# Altium schematic symbol library Capacitors-SMT$.SchLib: 72 symbols
Pins are listed as number, name and electrical type; pins without a type are passive.

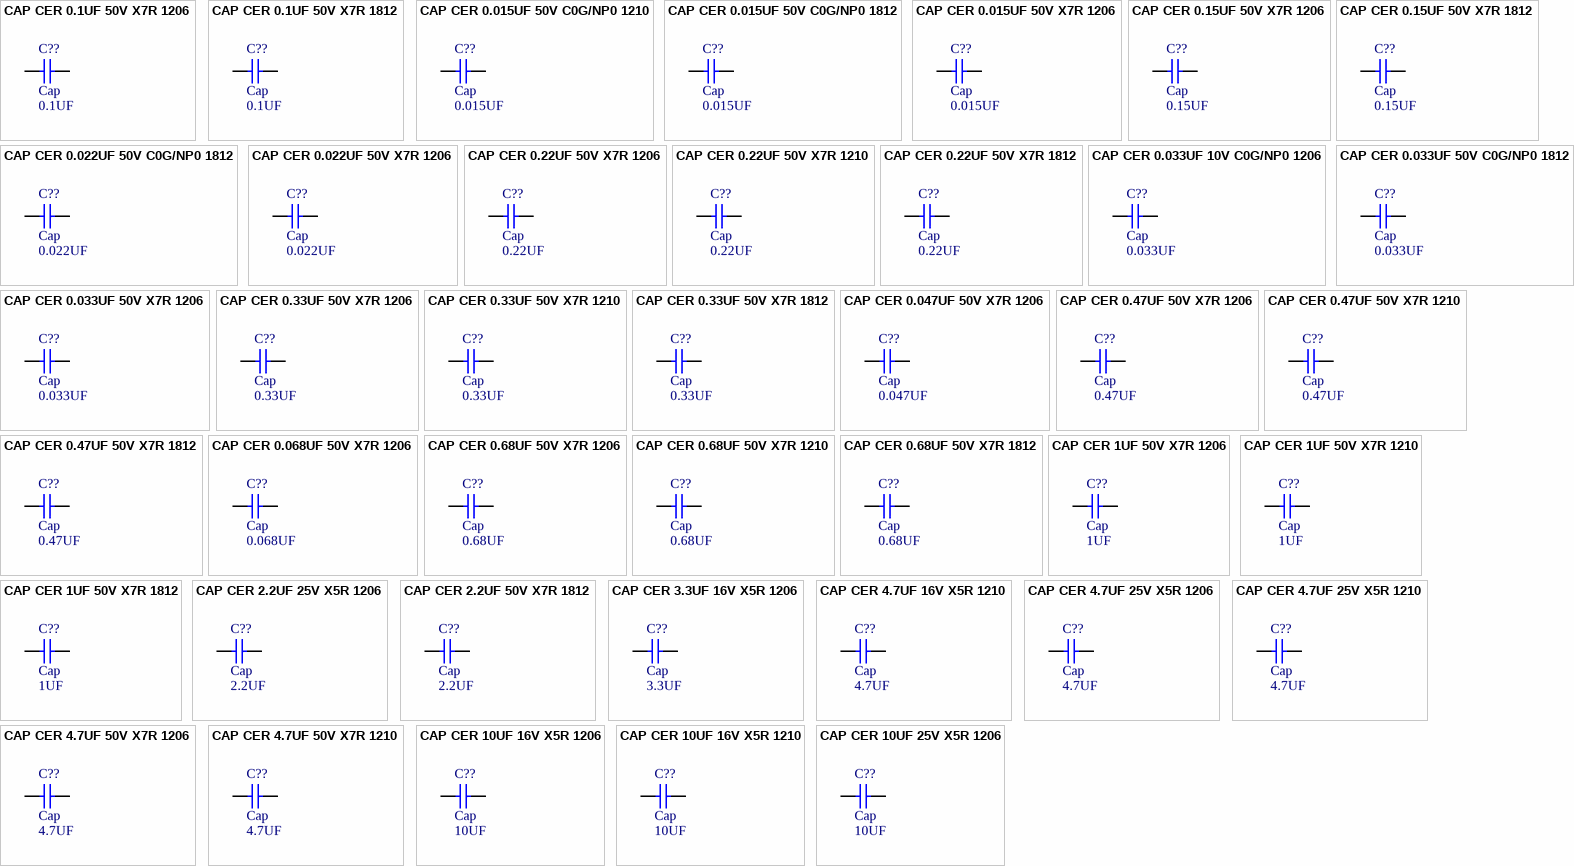
[diagram p0: symbols CAP CER 0.1UF 50V X7R 1206 to CAP CER 10UF 25V X5R 1206]

## CAP CER 0.1UF 50V X7R 1206
designator C??, comment Cap  value 0.1UF
Capacitor; Manufacturer Part Number: 885012208087; Designator: C?; Voltage Rating: 50V; Published: 8-Jun-2000; LatestRevisionDate: 17-Jul-2002; LatestRevisionNote: Re-released for DXP Platform.; Publisher: Altium Limited
simulation model CAP (Capacitor)
signal-integrity model Cap
footprint 1206
pins: 1, 2

## CAP CER 0.1UF 50V X7R 1812
designator C??, comment Cap  value 0.1UF
Capacitor; Manufacturer Part Number: 885012210025; Designator: C?; Voltage Rating: 50V; Published: 8-Jun-2000; LatestRevisionDate: 17-Jul-2002; LatestRevisionNote: Re-released for DXP Platform.; Publisher: Altium Limited
simulation model CAP (Capacitor)
signal-integrity model Cap
footprint 1812
pins: 1, 2

## CAP CER 0.015UF 50V C0G/NP0 1210
designator C??, comment Cap  value 0.015UF
Capacitor; Manufacturer Part Number: 885012009024; Designator: C?; Voltage Rating: 50V; Published: 8-Jun-2000; LatestRevisionDate: 17-Jul-2002; LatestRevisionNote: Re-released for DXP Platform.; Publisher: Altium Limited
simulation model CAP (Capacitor)
signal-integrity model Cap
footprint 1210
pins: 1, 2

## CAP CER 0.015UF 50V C0G/NP0 1812
designator C??, comment Cap  value 0.015UF
Capacitor; Manufacturer Part Number: 885012010014; Designator: C?; Voltage Rating: 50V; Published: 8-Jun-2000; LatestRevisionDate: 17-Jul-2002; LatestRevisionNote: Re-released for DXP Platform.; Publisher: Altium Limited
simulation model CAP (Capacitor)
signal-integrity model Cap
footprint 1812
pins: 1, 2

## CAP CER 0.015UF 50V X7R 1206
designator C??, comment Cap  value 0.015UF
Capacitor; Manufacturer Part Number: 885012208082; Designator: C?; Voltage Rating: 50V; Published: 8-Jun-2000; LatestRevisionDate: 17-Jul-2002; LatestRevisionNote: Re-released for DXP Platform.; Publisher: Altium Limited
simulation model CAP (Capacitor)
signal-integrity model Cap
footprint 1206
pins: 1, 2

## CAP CER 0.15UF 50V X7R 1206
designator C??, comment Cap  value 0.15UF
Capacitor; Manufacturer Part Number: 885012208088; Designator: C?; Voltage Rating: 50V; Published: 8-Jun-2000; LatestRevisionDate: 17-Jul-2002; LatestRevisionNote: Re-released for DXP Platform.; Publisher: Altium Limited
simulation model CAP (Capacitor)
signal-integrity model Cap
footprint 1206
pins: 1, 2

## CAP CER 0.15UF 50V X7R 1812
designator C??, comment Cap  value 0.15UF
Capacitor; Manufacturer Part Number: 885012210026; Designator: C?; Voltage Rating: 50V; Published: 8-Jun-2000; LatestRevisionDate: 17-Jul-2002; LatestRevisionNote: Re-released for DXP Platform.; Publisher: Altium Limited
simulation model CAP (Capacitor)
signal-integrity model Cap
footprint 1812
pins: 1, 2

## CAP CER 0.022UF 50V C0G/NP0 1812
designator C??, comment Cap  value 0.022UF
Capacitor; Manufacturer Part Number: 885012010015; Designator: C?; Voltage Rating: 50V; Published: 8-Jun-2000; LatestRevisionDate: 17-Jul-2002; LatestRevisionNote: Re-released for DXP Platform.; Publisher: Altium Limited
simulation model CAP (Capacitor)
signal-integrity model Cap
footprint 1812
pins: 1, 2

## CAP CER 0.022UF 50V X7R 1206
designator C??, comment Cap  value 0.022UF
Capacitor; Manufacturer Part Number: 885012208083; Designator: C?; Voltage Rating: 50V; Published: 8-Jun-2000; LatestRevisionDate: 17-Jul-2002; LatestRevisionNote: Re-released for DXP Platform.; Publisher: Altium Limited
simulation model CAP (Capacitor)
signal-integrity model Cap
footprint 1206
pins: 1, 2

## CAP CER 0.22UF 50V X7R 1206
designator C??, comment Cap  value 0.22UF
Capacitor; Manufacturer Part Number: 885012208089; Designator: C?; Voltage Rating: 50V; Published: 8-Jun-2000; LatestRevisionDate: 17-Jul-2002; LatestRevisionNote: Re-released for DXP Platform.; Publisher: Altium Limited
simulation model CAP (Capacitor)
signal-integrity model Cap
footprint 1206
pins: 1, 2

## CAP CER 0.22UF 50V X7R 1210
designator C??, comment Cap  value 0.22UF
Capacitor; Manufacturer Part Number: 885012209043; Designator: C?; Voltage Rating: 50V; Published: 8-Jun-2000; LatestRevisionDate: 17-Jul-2002; LatestRevisionNote: Re-released for DXP Platform.; Publisher: Altium Limited
simulation model CAP (Capacitor)
signal-integrity model Cap
footprint 1210
pins: 1, 2

## CAP CER 0.22UF 50V X7R 1812
designator C??, comment Cap  value 0.22UF
Capacitor; Manufacturer Part Number: 885012210027; Designator: C?; Voltage Rating: 50V; Published: 8-Jun-2000; LatestRevisionDate: 17-Jul-2002; LatestRevisionNote: Re-released for DXP Platform.; Publisher: Altium Limited
simulation model CAP (Capacitor)
signal-integrity model Cap
footprint 1812
pins: 1, 2

## CAP CER 0.033UF 10V C0G/NP0 1206
designator C??, comment Cap  value 0.033UF
Capacitor; Manufacturer Part Number: 885012008010; Designator: C?; Voltage Rating: 10V; Published: 8-Jun-2000; LatestRevisionDate: 17-Jul-2002; LatestRevisionNote: Re-released for DXP Platform.; Publisher: Altium Limited
simulation model CAP (Capacitor)
signal-integrity model Cap
footprint 1206
pins: 1, 2

## CAP CER 0.033UF 50V C0G/NP0 1812
designator C??, comment Cap  value 0.033UF
Capacitor; Manufacturer Part Number: 885012010016; Designator: C?; Voltage Rating: 50V; Published: 8-Jun-2000; LatestRevisionDate: 17-Jul-2002; LatestRevisionNote: Re-released for DXP Platform.; Publisher: Altium Limited
simulation model CAP (Capacitor)
signal-integrity model Cap
footprint 1812
pins: 1, 2

## CAP CER 0.033UF 50V X7R 1206
designator C??, comment Cap  value 0.033UF
Capacitor; Manufacturer Part Number: 885012208084; Designator: C?; Voltage Rating: 50V; Published: 8-Jun-2000; LatestRevisionDate: 17-Jul-2002; LatestRevisionNote: Re-released for DXP Platform.; Publisher: Altium Limited
simulation model CAP (Capacitor)
signal-integrity model Cap
footprint 1206
pins: 1, 2

## CAP CER 0.33UF 50V X7R 1206
designator C??, comment Cap  value 0.33UF
Capacitor; Manufacturer Part Number: 885012208090; Designator: C?; Voltage Rating: 50V; Published: 8-Jun-2000; LatestRevisionDate: 17-Jul-2002; LatestRevisionNote: Re-released for DXP Platform.; Publisher: Altium Limited
simulation model CAP (Capacitor)
signal-integrity model Cap
footprint 1206
pins: 1, 2

## CAP CER 0.33UF 50V X7R 1210
designator C??, comment Cap  value 0.33UF
Capacitor; Manufacturer Part Number: 885012209044; Designator: C?; Voltage Rating: 50V; Published: 8-Jun-2000; LatestRevisionDate: 17-Jul-2002; LatestRevisionNote: Re-released for DXP Platform.; Publisher: Altium Limited
simulation model CAP (Capacitor)
signal-integrity model Cap
footprint 1210
pins: 1, 2

## CAP CER 0.33UF 50V X7R 1812
designator C??, comment Cap  value 0.33UF
Capacitor; Manufacturer Part Number: 885012210028; Designator: C?; Voltage Rating: 50V; Published: 8-Jun-2000; LatestRevisionDate: 17-Jul-2002; LatestRevisionNote: Re-released for DXP Platform.; Publisher: Altium Limited
simulation model CAP (Capacitor)
signal-integrity model Cap
footprint 1812
pins: 1, 2

## CAP CER 0.047UF 50V X7R 1206
designator C??, comment Cap  value 0.047UF
Capacitor; Manufacturer Part Number: 885012208085; Designator: C?; Voltage Rating: 50V; Published: 8-Jun-2000; LatestRevisionDate: 17-Jul-2002; LatestRevisionNote: Re-released for DXP Platform.; Publisher: Altium Limited
simulation model CAP (Capacitor)
signal-integrity model Cap
footprint 1206
pins: 1, 2

## CAP CER 0.47UF 50V X7R 1206
designator C??, comment Cap  value 0.47UF
Capacitor; Manufacturer Part Number: 885012208091; Designator: C?; Voltage Rating: 50V; Published: 8-Jun-2000; LatestRevisionDate: 17-Jul-2002; LatestRevisionNote: Re-released for DXP Platform.; Publisher: Altium Limited
simulation model CAP (Capacitor)
signal-integrity model Cap
footprint 1206
pins: 1, 2

## CAP CER 0.47UF 50V X7R 1210
designator C??, comment Cap  value 0.47UF
Capacitor; Manufacturer Part Number: 885012209045; Designator: C?; Voltage Rating: 50V; Published: 8-Jun-2000; LatestRevisionDate: 17-Jul-2002; LatestRevisionNote: Re-released for DXP Platform.; Publisher: Altium Limited
simulation model CAP (Capacitor)
signal-integrity model Cap
footprint 1210
pins: 1, 2

## CAP CER 0.47UF 50V X7R 1812
designator C??, comment Cap  value 0.47UF
Capacitor; Manufacturer Part Number: 885012210029; Designator: C?; Voltage Rating: 50V; Published: 8-Jun-2000; LatestRevisionDate: 17-Jul-2002; LatestRevisionNote: Re-released for DXP Platform.; Publisher: Altium Limited
simulation model CAP (Capacitor)
signal-integrity model Cap
footprint 1812
pins: 1, 2

## CAP CER 0.068UF 50V X7R 1206
designator C??, comment Cap  value 0.068UF
Capacitor; Manufacturer Part Number: 885012208086; Designator: C?; Voltage Rating: 50V; Published: 8-Jun-2000; LatestRevisionDate: 17-Jul-2002; LatestRevisionNote: Re-released for DXP Platform.; Publisher: Altium Limited
simulation model CAP (Capacitor)
signal-integrity model Cap
footprint 1206
pins: 1, 2

## CAP CER 0.68UF 50V X7R 1206
designator C??, comment Cap  value 0.68UF
Capacitor; Manufacturer Part Number: 885012208092; Designator: C?; Voltage Rating: 50V; Published: 8-Jun-2000; LatestRevisionDate: 17-Jul-2002; LatestRevisionNote: Re-released for DXP Platform.; Publisher: Altium Limited
simulation model CAP (Capacitor)
signal-integrity model Cap
footprint 1206
pins: 1, 2

## CAP CER 0.68UF 50V X7R 1210
designator C??, comment Cap  value 0.68UF
Capacitor; Manufacturer Part Number: 885012209046; Designator: C?; Voltage Rating: 50V; Published: 8-Jun-2000; LatestRevisionDate: 17-Jul-2002; LatestRevisionNote: Re-released for DXP Platform.; Publisher: Altium Limited
simulation model CAP (Capacitor)
signal-integrity model Cap
footprint 1210
pins: 1, 2

## CAP CER 0.68UF 50V X7R 1812
designator C??, comment Cap  value 0.68UF
Capacitor; Manufacturer Part Number: 885012210030; Designator: C?; Voltage Rating: 50V; Published: 8-Jun-2000; LatestRevisionDate: 17-Jul-2002; LatestRevisionNote: Re-released for DXP Platform.; Publisher: Altium Limited
simulation model CAP (Capacitor)
signal-integrity model Cap
footprint 1812
pins: 1, 2

## CAP CER 1UF 50V X7R 1206
designator C??, comment Cap  value 1UF
Capacitor; Manufacturer Part Number: 885012208093; Designator: C?; Voltage Rating: 50V; Published: 8-Jun-2000; LatestRevisionDate: 17-Jul-2002; LatestRevisionNote: Re-released for DXP Platform.; Publisher: Altium Limited
simulation model CAP (Capacitor)
signal-integrity model Cap
footprint 1206
pins: 1, 2

## CAP CER 1UF 50V X7R 1210
designator C??, comment Cap  value 1UF
Capacitor; Manufacturer Part Number: 885012209047; Designator: C?; Voltage Rating: 50V; Published: 8-Jun-2000; LatestRevisionDate: 17-Jul-2002; LatestRevisionNote: Re-released for DXP Platform.; Publisher: Altium Limited
simulation model CAP (Capacitor)
signal-integrity model Cap
footprint 1210
pins: 1, 2

## CAP CER 1UF 50V X7R 1812
designator C??, comment Cap  value 1UF
Capacitor; Manufacturer Part Number: 885012210031; Designator: C?; Voltage Rating: 50V; Published: 8-Jun-2000; LatestRevisionDate: 17-Jul-2002; LatestRevisionNote: Re-released for DXP Platform.; Publisher: Altium Limited
simulation model CAP (Capacitor)
signal-integrity model Cap
footprint 1812
pins: 1, 2

## CAP CER 2.2UF 25V X5R 1206
designator C??, comment Cap  value 2.2UF
Capacitor; Manufacturer Part Number: 885012108019; Designator: C?; Voltage Rating: 25V; Published: 8-Jun-2000; LatestRevisionDate: 17-Jul-2002; LatestRevisionNote: Re-released for DXP Platform.; Publisher: Altium Limited
simulation model CAP (Capacitor)
signal-integrity model Cap
footprint 1206
pins: 1, 2

## CAP CER 2.2UF 50V X7R 1812
designator C??, comment Cap  value 2.2UF
Capacitor; Manufacturer Part Number: 885012210032; Designator: C?; Voltage Rating: 50V; Published: 8-Jun-2000; LatestRevisionDate: 17-Jul-2002; LatestRevisionNote: Re-released for DXP Platform.; Publisher: Altium Limited
simulation model CAP (Capacitor)
signal-integrity model Cap
footprint 1812
pins: 1, 2

## CAP CER 3.3UF 16V X5R 1206
designator C??, comment Cap  value 3.3UF
Capacitor; Manufacturer Part Number: 885012108015; Designator: C?; Voltage Rating: 16V; Published: 8-Jun-2000; LatestRevisionDate: 17-Jul-2002; LatestRevisionNote: Re-released for DXP Platform.; Publisher: Altium Limited
simulation model CAP (Capacitor)
signal-integrity model Cap
footprint 1206
pins: 1, 2

## CAP CER 4.7UF 16V X5R 1210
designator C??, comment Cap  value 4.7UF
Capacitor; Manufacturer Part Number: 885012109008; Designator: C?; Voltage Rating: 16V; Published: 8-Jun-2000; LatestRevisionDate: 17-Jul-2002; LatestRevisionNote: Re-released for DXP Platform.; Publisher: Altium Limited
simulation model CAP (Capacitor)
signal-integrity model Cap
footprint 1210
pins: 1, 2

## CAP CER 4.7UF 25V X5R 1206
designator C??, comment Cap  value 4.7UF
Capacitor; Manufacturer Part Number: 885012108020; Designator: C?; Voltage Rating: 25V; Published: 8-Jun-2000; LatestRevisionDate: 17-Jul-2002; LatestRevisionNote: Re-released for DXP Platform.; Publisher: Altium Limited
simulation model CAP (Capacitor)
signal-integrity model Cap
footprint 1206
pins: 1, 2

## CAP CER 4.7UF 25V X5R 1210
designator C??, comment Cap  value 4.7UF
Capacitor; Manufacturer Part Number: 885012109012; Designator: C?; Voltage Rating: 25V; Published: 8-Jun-2000; LatestRevisionDate: 17-Jul-2002; LatestRevisionNote: Re-released for DXP Platform.; Publisher: Altium Limited
simulation model CAP (Capacitor)
signal-integrity model Cap
footprint 1210
pins: 1, 2

## CAP CER 4.7UF 50V X7R 1206
designator C??, comment Cap  value 4.7UF
Capacitor; Manufacturer Part Number: 885012208094; Designator: C?; Voltage Rating: 50V; Published: 8-Jun-2000; LatestRevisionDate: 17-Jul-2002; LatestRevisionNote: Re-released for DXP Platform.; Publisher: Altium Limited
simulation model CAP (Capacitor)
signal-integrity model Cap
footprint 1206
pins: 1, 2

## CAP CER 4.7UF 50V X7R 1210
designator C??, comment Cap  value 4.7UF
Capacitor; Manufacturer Part Number: 885012209048; Designator: C?; Voltage Rating: 50V; Published: 8-Jun-2000; LatestRevisionDate: 17-Jul-2002; LatestRevisionNote: Re-released for DXP Platform.; Publisher: Altium Limited
simulation model CAP (Capacitor)
signal-integrity model Cap
footprint 1210
pins: 1, 2

## CAP CER 10UF 16V X5R 1206
designator C??, comment Cap  value 10UF
Capacitor; Manufacturer Part Number: 885012108017; Designator: C?; Voltage Rating: 16V; Published: 8-Jun-2000; LatestRevisionDate: 17-Jul-2002; LatestRevisionNote: Re-released for DXP Platform.; Publisher: Altium Limited
simulation model CAP (Capacitor)
signal-integrity model Cap
footprint 1206
pins: 1, 2

## CAP CER 10UF 16V X5R 1210
designator C??, comment Cap  value 10UF
Capacitor; Manufacturer Part Number: 885012109009; Designator: C?; Voltage Rating: 16V; Published: 8-Jun-2000; LatestRevisionDate: 17-Jul-2002; LatestRevisionNote: Re-released for DXP Platform.; Publisher: Altium Limited
simulation model CAP (Capacitor)
signal-integrity model Cap
footprint 1210
pins: 1, 2

## CAP CER 10UF 25V X5R 1206
designator C??, comment Cap  value 10UF
Capacitor; Manufacturer Part Number: 885012108021; Designator: C?; Voltage Rating: 25V; Published: 8-Jun-2000; LatestRevisionDate: 17-Jul-2002; LatestRevisionNote: Re-released for DXP Platform.; Publisher: Altium Limited
simulation model CAP (Capacitor)
signal-integrity model Cap
footprint 1206
pins: 1, 2

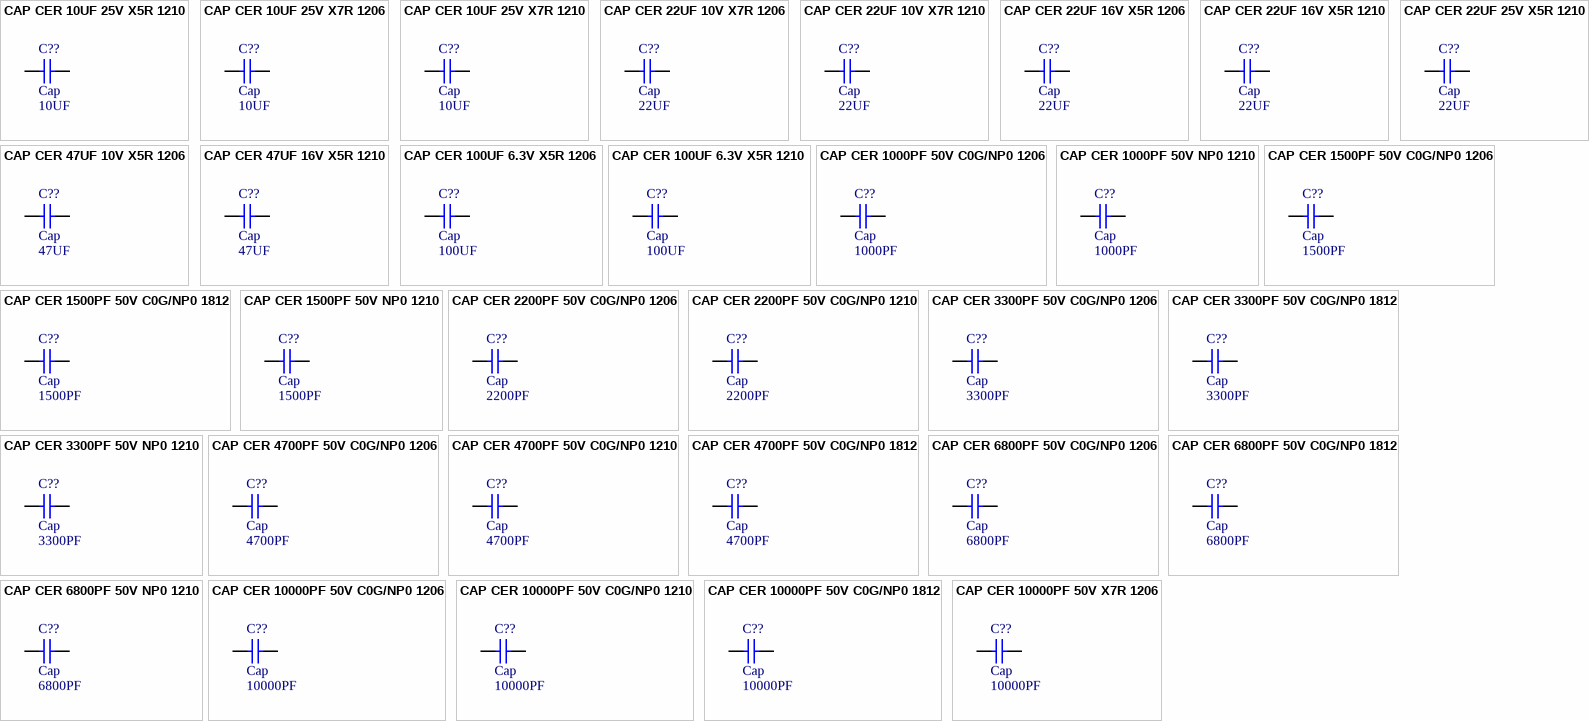
[diagram p1: symbols CAP CER 10UF 25V X5R 1210 to CAP CER 10000PF 50V X7R 1206]

## CAP CER 10UF 25V X5R 1210
designator C??, comment Cap  value 10UF
Capacitor; Manufacturer Part Number: 885012109013; Designator: C?; Voltage Rating: 25V; Published: 8-Jun-2000; LatestRevisionDate: 17-Jul-2002; LatestRevisionNote: Re-released for DXP Platform.; Publisher: Altium Limited
simulation model CAP (Capacitor)
signal-integrity model Cap
footprint 1210
pins: 1, 2

## CAP CER 10UF 25V X7R 1206
designator C??, comment Cap  value 10UF
Capacitor; Manufacturer Part Number: 885012208069; Designator: C?; Voltage Rating: 25V; Published: 8-Jun-2000; LatestRevisionDate: 17-Jul-2002; LatestRevisionNote: Re-released for DXP Platform.; Publisher: Altium Limited
simulation model CAP (Capacitor)
signal-integrity model Cap
footprint 1206
pins: 1, 2

## CAP CER 10UF 25V X7R 1210
designator C??, comment Cap  value 10UF
Capacitor; Manufacturer Part Number: 885012209028; Designator: C?; Voltage Rating: 25V; Published: 8-Jun-2000; LatestRevisionDate: 17-Jul-2002; LatestRevisionNote: Re-released for DXP Platform.; Publisher: Altium Limited
simulation model CAP (Capacitor)
signal-integrity model Cap
footprint 1210
pins: 1, 2

## CAP CER 22UF 10V X7R 1206
designator C??, comment Cap  value 22UF
Capacitor; Manufacturer Part Number: 885012208019; Designator: C?; Voltage Rating: 10V; Published: 8-Jun-2000; LatestRevisionDate: 17-Jul-2002; LatestRevisionNote: Re-released for DXP Platform.; Publisher: Altium Limited
simulation model CAP (Capacitor)
signal-integrity model Cap
footprint 1206
pins: 1, 2

## CAP CER 22UF 10V X7R 1210
designator C??, comment Cap  value 22UF
Capacitor; Manufacturer Part Number: 885012209006; Designator: C?; Voltage Rating: 10V; Published: 8-Jun-2000; LatestRevisionDate: 17-Jul-2002; LatestRevisionNote: Re-released for DXP Platform.; Publisher: Altium Limited
simulation model CAP (Capacitor)
signal-integrity model Cap
footprint 1210
pins: 1, 2

## CAP CER 22UF 16V X5R 1206
designator C??, comment Cap  value 22UF
Capacitor; Manufacturer Part Number: 885012108018; Designator: C?; Voltage Rating: 16V; Published: 8-Jun-2000; LatestRevisionDate: 17-Jul-2002; LatestRevisionNote: Re-released for DXP Platform.; Publisher: Altium Limited
simulation model CAP (Capacitor)
signal-integrity model Cap
footprint 1206
pins: 1, 2

## CAP CER 22UF 16V X5R 1210
designator C??, comment Cap  value 22UF
Capacitor; Manufacturer Part Number: 885012109010; Designator: C?; Voltage Rating: 16V; Published: 8-Jun-2000; LatestRevisionDate: 17-Jul-2002; LatestRevisionNote: Re-released for DXP Platform.; Publisher: Altium Limited
simulation model CAP (Capacitor)
signal-integrity model Cap
footprint 1210
pins: 1, 2

## CAP CER 22UF 25V X5R 1210
designator C??, comment Cap  value 22UF
Capacitor; Manufacturer Part Number: 885012109014; Designator: C?; Voltage Rating: 25V; Published: 8-Jun-2000; LatestRevisionDate: 17-Jul-2002; LatestRevisionNote: Re-released for DXP Platform.; Publisher: Altium Limited
simulation model CAP (Capacitor)
signal-integrity model Cap
footprint 1210
pins: 1, 2

## CAP CER 47UF 10V X5R 1206
designator C??, comment Cap  value 47UF
Capacitor; Manufacturer Part Number: 885012108012; Designator: C?; Voltage Rating: 10V; Published: 8-Jun-2000; LatestRevisionDate: 17-Jul-2002; LatestRevisionNote: Re-released for DXP Platform.; Publisher: Altium Limited
simulation model CAP (Capacitor)
signal-integrity model Cap
footprint 1206
pins: 1, 2

## CAP CER 47UF 16V X5R 1210
designator C??, comment Cap  value 47UF
Capacitor; Manufacturer Part Number: 885012109011; Designator: C?; Voltage Rating: 16V; Published: 8-Jun-2000; LatestRevisionDate: 17-Jul-2002; LatestRevisionNote: Re-released for DXP Platform.; Publisher: Altium Limited
simulation model CAP (Capacitor)
signal-integrity model Cap
footprint 1210
pins: 1, 2

## CAP CER 100UF 6.3V X5R 1206
designator C??, comment Cap  value 100UF
Capacitor; Manufacturer Part Number: 885012108005; Designator: C?; Voltage Rating: 6.3V; Published: 8-Jun-2000; LatestRevisionDate: 17-Jul-2002; LatestRevisionNote: Re-released for DXP Platform.; Publisher: Altium Limited
simulation model CAP (Capacitor)
signal-integrity model Cap
footprint 1206
pins: 1, 2

## CAP CER 100UF 6.3V X5R 1210
designator C??, comment Cap  value 100UF
Capacitor; Manufacturer Part Number: 885012109004; Designator: C?; Voltage Rating: 6.3V; Published: 8-Jun-2000; LatestRevisionDate: 17-Jul-2002; LatestRevisionNote: Re-released for DXP Platform.; Publisher: Altium Limited
simulation model CAP (Capacitor)
signal-integrity model Cap
footprint 1210
pins: 1, 2

## CAP CER 1000PF 50V C0G/NP0 1206
designator C??, comment Cap  value 1000PF
Capacitor; Manufacturer Part Number: 885012008049; Designator: C?; Voltage Rating: 50V; Published: 8-Jun-2000; LatestRevisionDate: 17-Jul-2002; LatestRevisionNote: Re-released for DXP Platform.; Publisher: Altium Limited
simulation model CAP (Capacitor)
signal-integrity model Cap
footprint 1206
pins: 1, 2

## CAP CER 1000PF 50V NP0 1210
designator C??, comment Cap  value 1000PF
Capacitor; Manufacturer Part Number: 885012009017; Designator: C?; Voltage Rating: 50V; Published: 8-Jun-2000; LatestRevisionDate: 17-Jul-2002; LatestRevisionNote: Re-released for DXP Platform.; Publisher: Altium Limited
simulation model CAP (Capacitor)
signal-integrity model Cap
footprint 1210
pins: 1, 2

## CAP CER 1500PF 50V C0G/NP0 1206
designator C??, comment Cap  value 1500PF
Capacitor; Manufacturer Part Number: 885012008050; Designator: C?; Voltage Rating: 50V; Published: 8-Jun-2000; LatestRevisionDate: 17-Jul-2002; LatestRevisionNote: Re-released for DXP Platform.; Publisher: Altium Limited
simulation model CAP (Capacitor)
signal-integrity model Cap
footprint 1206
pins: 1, 2

## CAP CER 1500PF 50V C0G/NP0 1812
designator C??, comment Cap  value 1500PF
Capacitor; Manufacturer Part Number: 885012010009; Designator: C?; Voltage Rating: 50V; Published: 8-Jun-2000; LatestRevisionDate: 17-Jul-2002; LatestRevisionNote: Re-released for DXP Platform.; Publisher: Altium Limited
simulation model CAP (Capacitor)
signal-integrity model Cap
footprint 1812
pins: 1, 2

## CAP CER 1500PF 50V NP0 1210
designator C??, comment Cap  value 1500PF
Capacitor; Manufacturer Part Number: 885012009018; Designator: C?; Voltage Rating: 50V; Published: 8-Jun-2000; LatestRevisionDate: 17-Jul-2002; LatestRevisionNote: Re-released for DXP Platform.; Publisher: Altium Limited
simulation model CAP (Capacitor)
signal-integrity model Cap
footprint 1210
pins: 1, 2

## CAP CER 2200PF 50V C0G/NP0 1206
designator C??, comment Cap  value 2200PF
Capacitor; Manufacturer Part Number: 885012008051; Designator: C?; Voltage Rating: 50V; Published: 8-Jun-2000; LatestRevisionDate: 17-Jul-2002; LatestRevisionNote: Re-released for DXP Platform.; Publisher: Altium Limited
simulation model CAP (Capacitor)
signal-integrity model Cap
footprint 1206
pins: 1, 2

## CAP CER 2200PF 50V C0G/NP0 1210
designator C??, comment Cap  value 2200PF
Capacitor; Manufacturer Part Number: 885012009019; Designator: C?; Voltage Rating: 50V; Published: 8-Jun-2000; LatestRevisionDate: 17-Jul-2002; LatestRevisionNote: Re-released for DXP Platform.; Publisher: Altium Limited
simulation model CAP (Capacitor)
signal-integrity model Cap
footprint 1210
pins: 1, 2

## CAP CER 3300PF 50V C0G/NP0 1206
designator C??, comment Cap  value 3300PF
Capacitor; Manufacturer Part Number: 885012008052; Designator: C?; Voltage Rating: 50V; Published: 8-Jun-2000; LatestRevisionDate: 17-Jul-2002; LatestRevisionNote: Re-released for DXP Platform.; Publisher: Altium Limited
simulation model CAP (Capacitor)
signal-integrity model Cap
footprint 1206
pins: 1, 2

## CAP CER 3300PF 50V C0G/NP0 1812
designator C??, comment Cap  value 3300PF
Capacitor; Manufacturer Part Number: 885012010010; Designator: C?; Voltage Rating: 50V; Published: 8-Jun-2000; LatestRevisionDate: 17-Jul-2002; LatestRevisionNote: Re-released for DXP Platform.; Publisher: Altium Limited
simulation model CAP (Capacitor)
signal-integrity model Cap
footprint 1812
pins: 1, 2

## CAP CER 3300PF 50V NP0 1210
designator C??, comment Cap  value 3300PF
Capacitor; Manufacturer Part Number: 885012009020; Designator: C?; Voltage Rating: 50V; Published: 8-Jun-2000; LatestRevisionDate: 17-Jul-2002; LatestRevisionNote: Re-released for DXP Platform.; Publisher: Altium Limited
simulation model CAP (Capacitor)
signal-integrity model Cap
footprint 1210
pins: 1, 2

## CAP CER 4700PF 50V C0G/NP0 1206
designator C??, comment Cap  value 4700PF
Capacitor; Manufacturer Part Number: 885012008053; Designator: C?; Voltage Rating: 50V; Published: 8-Jun-2000; LatestRevisionDate: 17-Jul-2002; LatestRevisionNote: Re-released for DXP Platform.; Publisher: Altium Limited
simulation model CAP (Capacitor)
signal-integrity model Cap
footprint 1206
pins: 1, 2

## CAP CER 4700PF 50V C0G/NP0 1210
designator C??, comment Cap  value 4700PF
Capacitor; Manufacturer Part Number: 885012009021; Designator: C?; Voltage Rating: 50V; Published: 8-Jun-2000; LatestRevisionDate: 17-Jul-2002; LatestRevisionNote: Re-released for DXP Platform.; Publisher: Altium Limited
simulation model CAP (Capacitor)
signal-integrity model Cap
footprint 1210
pins: 1, 2

## CAP CER 4700PF 50V C0G/NP0 1812
designator C??, comment Cap  value 4700PF
Capacitor; Manufacturer Part Number: 885012010011; Designator: C?; Voltage Rating: 50V; Published: 8-Jun-2000; LatestRevisionDate: 17-Jul-2002; LatestRevisionNote: Re-released for DXP Platform.; Publisher: Altium Limited
simulation model CAP (Capacitor)
signal-integrity model Cap
footprint 1812
pins: 1, 2

## CAP CER 6800PF 50V C0G/NP0 1206
designator C??, comment Cap  value 6800PF
Capacitor; Manufacturer Part Number: 885012008054; Designator: C?; Voltage Rating: 50V; Published: 8-Jun-2000; LatestRevisionDate: 17-Jul-2002; LatestRevisionNote: Re-released for DXP Platform.; Publisher: Altium Limited
simulation model CAP (Capacitor)
signal-integrity model Cap
footprint 1206
pins: 1, 2

## CAP CER 6800PF 50V C0G/NP0 1812
designator C??, comment Cap  value 6800PF
Capacitor; Manufacturer Part Number: 885012010012; Designator: C?; Voltage Rating: 50V; Published: 8-Jun-2000; LatestRevisionDate: 17-Jul-2002; LatestRevisionNote: Re-released for DXP Platform.; Publisher: Altium Limited
simulation model CAP (Capacitor)
signal-integrity model Cap
footprint 1812
pins: 1, 2

## CAP CER 6800PF 50V NP0 1210
designator C??, comment Cap  value 6800PF
Capacitor; Manufacturer Part Number: 885012009022; Designator: C?; Voltage Rating: 50V; Published: 8-Jun-2000; LatestRevisionDate: 17-Jul-2002; LatestRevisionNote: Re-released for DXP Platform.; Publisher: Altium Limited
simulation model CAP (Capacitor)
signal-integrity model Cap
footprint 1210
pins: 1, 2

## CAP CER 10000PF 50V C0G/NP0 1206
designator C??, comment Cap  value 10000PF
Capacitor; Manufacturer Part Number: 885012008055; Designator: C?; Voltage Rating: 50V; Published: 8-Jun-2000; LatestRevisionDate: 17-Jul-2002; LatestRevisionNote: Re-released for DXP Platform.; Publisher: Altium Limited
simulation model CAP (Capacitor)
signal-integrity model Cap
footprint 1206
pins: 1, 2

## CAP CER 10000PF 50V C0G/NP0 1210
designator C??, comment Cap  value 10000PF
Capacitor; Manufacturer Part Number: 885012009023; Designator: C?; Voltage Rating: 50V; Published: 8-Jun-2000; LatestRevisionDate: 17-Jul-2002; LatestRevisionNote: Re-released for DXP Platform.; Publisher: Altium Limited
simulation model CAP (Capacitor)
signal-integrity model Cap
footprint 1210
pins: 1, 2

## CAP CER 10000PF 50V C0G/NP0 1812
designator C??, comment Cap  value 10000PF
Capacitor; Manufacturer Part Number: 885012010013; Designator: C?; Voltage Rating: 50V; Published: 8-Jun-2000; LatestRevisionDate: 17-Jul-2002; LatestRevisionNote: Re-released for DXP Platform.; Publisher: Altium Limited
simulation model CAP (Capacitor)
signal-integrity model Cap
footprint 1812
pins: 1, 2

## CAP CER 10000PF 50V X7R 1206
designator C??, comment Cap  value 10000PF
Capacitor; Manufacturer Part Number: 885012208081; Designator: C?; Voltage Rating: 50V; Published: 8-Jun-2000; LatestRevisionDate: 17-Jul-2002; LatestRevisionNote: Re-released for DXP Platform.; Publisher: Altium Limited
simulation model CAP (Capacitor)
signal-integrity model Cap
footprint 1206
pins: 1, 2